# Altium integrated library Capacitors - Ceramic - 0201.IntLib: 1723 symbols (part 14 of 38)
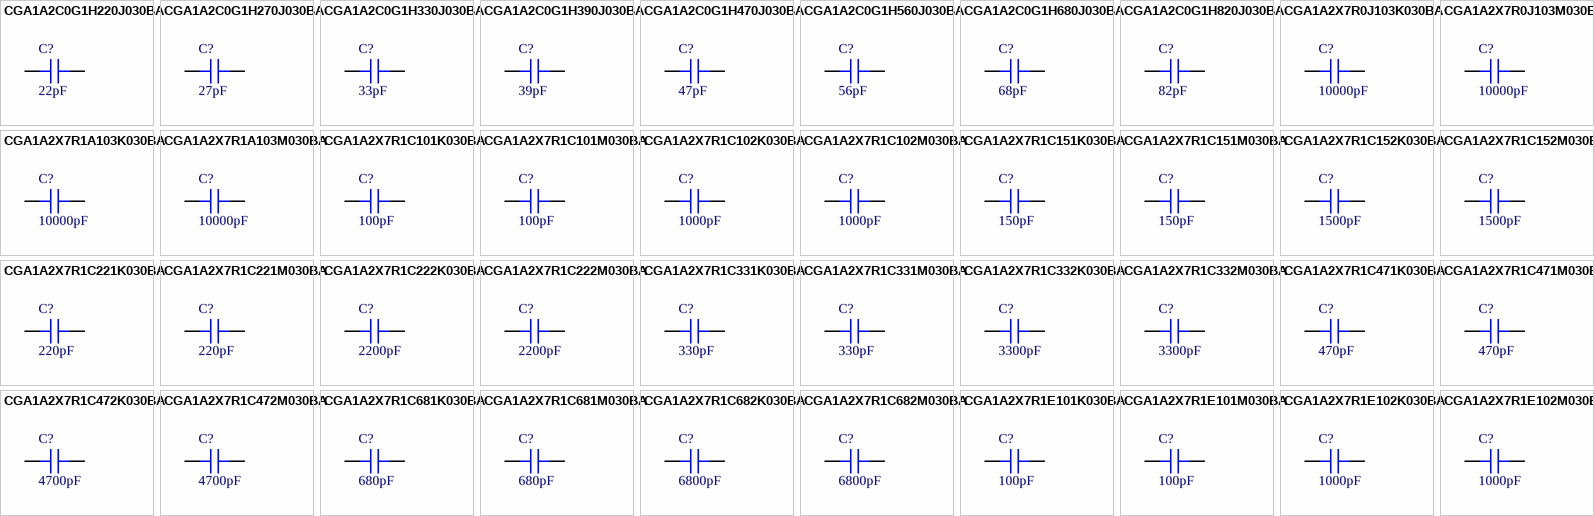
[diagram p56: symbols CGA1A2C0G1H220J030BA to CGA1A2X7R1E102M030BA]

## CGA1A2X7R1E102M030BA
designator C?, comment 1000pF
CAP CER 1000PF 25V X7R 0201; Part Number: CGA1A2X7R1E102M030BA; Manufacturer: TDK Corporation; Tolerance: ±20%; Value: 1000pF; Applications: Automotive; Capacitance: 1000pF; ComponentLink1Description: Datasheet; ComponentLink1URL: https://product.tdk.com/info/en/catalog/datasheets/mlcc_automotive_general_en.pdf?ref_disty=digikey; ComponentLink2Description: DigiKey Link; ComponentLink2URL: http://digikey.com/product-detail/en/tdk-corporation/CGA1A2X7R1E102M030BA/445-12086-1-ND/3953752; Device Package: 0201 (0603 Metric); LastUpdated: 9/2/2020 12:59:24 AM; Lifecycle Status: Active; Minimum Order: 1; Mounting Type: Surface Mount, MLCC; Operating Temperature: -55°C ~ 125°C; Package / Case: 0201 (0603 Metric); Packaging: TapeAndReel; PartId: 649; Part Status: Active; Price: 0.01; Ratings: AEC-Q200; Series: CGA; Size / Dimension: 0.024" L x 0.012" W (0.60mm x 0.30mm); Supplier 1: DigiKey; Supplier Part Number 1: 445-12086-1-ND; Temperature Coefficient: X7R; Thickness (Max): 0.013" (0.33mm); Voltage - Rated: 25V
footprint CAP 0201_0603
pins: 1, 2

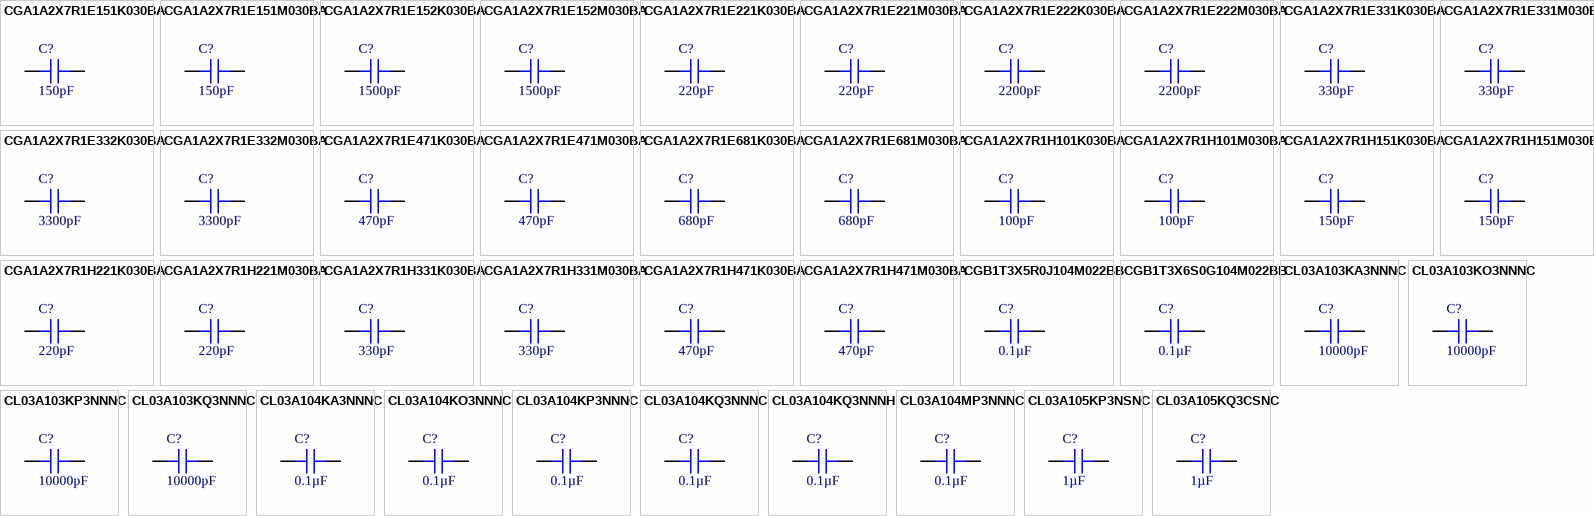
[diagram p15: symbols CGA1A2X7R1E151K030BA to CL03A105KQ3CSNC]

## CGA1A2X7R1E151K030BA
designator C?, comment 150pF
CAP CER 150PF 25V X7R 0201; Part Number: CGA1A2X7R1E151K030BA; Manufacturer: TDK Corporation; Tolerance: ±10%; Value: 150pF; Applications: Automotive; Capacitance: 150pF; ComponentLink1Description: Datasheet; ComponentLink1URL: https://product.tdk.com/info/en/catalog/datasheets/mlcc_automotive_general_en.pdf?ref_disty=digikey; ComponentLink2Description: DigiKey Link; ComponentLink2URL: http://digikey.com/product-detail/en/tdk-corporation/CGA1A2X7R1E151K030BA/445-12091-1-ND/3953757; Device Package: 0201 (0603 Metric); LastUpdated: 9/2/2020 12:59:38 AM; Lifecycle Status: Active; Minimum Order: 1; Mounting Type: Surface Mount, MLCC; Operating Temperature: -55°C ~ 125°C; Package / Case: 0201 (0603 Metric); Packaging: TapeAndReel; PartId: 481; Part Status: Active; Price: 0.02; Ratings: AEC-Q200; Series: CGA; Size / Dimension: 0.024" L x 0.012" W (0.60mm x 0.30mm); Supplier 1: DigiKey; Supplier Part Number 1: 445-12091-1-ND; Temperature Coefficient: X7R; Thickness (Max): 0.013" (0.33mm); Voltage - Rated: 25V
footprint CAP 0201_0603
pins: 1, 2

## CGA1A2X7R1E151M030BA
designator C?, comment 150pF
CAP CER 150PF 25V X7R 0201; Part Number: CGA1A2X7R1E151M030BA; Manufacturer: TDK Corporation; Tolerance: ±20%; Value: 150pF; Applications: Automotive; Capacitance: 150pF; ComponentLink1Description: Datasheet; ComponentLink1URL: https://product.tdk.com/info/en/catalog/datasheets/mlcc_automotive_general_en.pdf?ref_disty=digikey; ComponentLink2Description: DigiKey Link; ComponentLink2URL: http://digikey.com/product-detail/en/tdk-corporation/CGA1A2X7R1E151M030BA/445-12092-1-ND/3953758; Device Package: 0201 (0603 Metric); LastUpdated: 9/2/2020 12:59:42 AM; Lifecycle Status: Active; Minimum Order: 1; Mounting Type: Surface Mount, MLCC; Operating Temperature: -55°C ~ 125°C; Package / Case: 0201 (0603 Metric); Packaging: TapeAndReel; PartId: 430; Part Status: Active; Price: 0.02; Ratings: AEC-Q200; Series: CGA; Size / Dimension: 0.024" L x 0.012" W (0.60mm x 0.30mm); Supplier 1: DigiKey; Supplier Part Number 1: 445-12092-1-ND; Temperature Coefficient: X7R; Thickness (Max): 0.013" (0.33mm); Voltage - Rated: 25V
footprint CAP 0201_0603
pins: 1, 2

## CGA1A2X7R1E152K030BA
designator C?, comment 1500pF
CAP CER 1500PF 25V X7R 0201; Part Number: CGA1A2X7R1E152K030BA; Manufacturer: TDK Corporation; Tolerance: ±10%; Value: 1500pF; Applications: Automotive; Capacitance: 1500pF; ComponentLink1Description: Datasheet; ComponentLink1URL: https://product.tdk.com/info/en/catalog/datasheets/mlcc_automotive_general_en.pdf?ref_disty=digikey; ComponentLink2Description: DigiKey Link; ComponentLink2URL: http://digikey.com/product-detail/en/tdk-corporation/CGA1A2X7R1E152K030BA/445-12089-1-ND/3953755; Device Package: 0201 (0603 Metric); LastUpdated: 9/2/2020 12:59:38 AM; Lifecycle Status: Active; Minimum Order: 1; Mounting Type: Surface Mount, MLCC; Operating Temperature: -55°C ~ 125°C; Package / Case: 0201 (0603 Metric); Packaging: TapeAndReel; PartId: 484; Part Status: Active; Price: 0.02; Ratings: AEC-Q200; Series: CGA; Size / Dimension: 0.024" L x 0.012" W (0.60mm x 0.30mm); Supplier 1: DigiKey; Supplier Part Number 1: 445-12089-1-ND; Temperature Coefficient: X7R; Thickness (Max): 0.013" (0.33mm); Voltage - Rated: 25V
footprint CAP 0201_0603
pins: 1, 2

## CGA1A2X7R1E152M030BA
designator C?, comment 1500pF
CAP CER 1500PF 25V X7R 0201; Part Number: CGA1A2X7R1E152M030BA; Manufacturer: TDK Corporation; Tolerance: ±20%; Value: 1500pF; Applications: Automotive; Capacitance: 1500pF; ComponentLink1Description: Datasheet; ComponentLink1URL: https://product.tdk.com/info/en/catalog/datasheets/mlcc_automotive_general_en.pdf?ref_disty=digikey; ComponentLink2Description: DigiKey Link; ComponentLink2URL: http://digikey.com/product-detail/en/tdk-corporation/CGA1A2X7R1E152M030BA/445-12090-1-ND/3953756; Device Package: 0201 (0603 Metric); LastUpdated: 9/2/2020 12:59:23 AM; Lifecycle Status: Active; Minimum Order: 1; Mounting Type: Surface Mount, MLCC; Operating Temperature: -55°C ~ 125°C; Package / Case: 0201 (0603 Metric); Packaging: TapeAndReel; PartId: 653; Part Status: Active; Price: 0.02; Ratings: AEC-Q200; Series: CGA; Size / Dimension: 0.024" L x 0.012" W (0.60mm x 0.30mm); Supplier 1: DigiKey; Supplier Part Number 1: 445-12090-1-ND; Temperature Coefficient: X7R; Thickness (Max): 0.013" (0.33mm); Voltage - Rated: 25V
footprint CAP 0201_0603
pins: 1, 2

## CGA1A2X7R1E221K030BA
designator C?, comment 220pF
CAP CER 220PF 25V X7R 0201; Part Number: CGA1A2X7R1E221K030BA; Manufacturer: TDK Corporation; Tolerance: ±10%; Value: 220pF; Applications: Automotive; Capacitance: 220pF; ComponentLink1Description: Datasheet; ComponentLink1URL: https://product.tdk.com/info/en/catalog/datasheets/mlcc_automotive_general_en.pdf?ref_disty=digikey; ComponentLink2Description: DigiKey Link; ComponentLink2URL: http://digikey.com/product-detail/en/tdk-corporation/CGA1A2X7R1E221K030BA/445-12095-1-ND/3953761; Device Package: 0201 (0603 Metric); LastUpdated: 9/2/2020 12:59:39 AM; Lifecycle Status: Active; Minimum Order: 1; Mounting Type: Surface Mount, MLCC; Operating Temperature: -55°C ~ 125°C; Package / Case: 0201 (0603 Metric); Packaging: TapeAndReel; PartId: 470; Part Status: Active; Price: 0.01; Ratings: AEC-Q200; Series: CGA; Size / Dimension: 0.024" L x 0.012" W (0.60mm x 0.30mm); Supplier 1: DigiKey; Supplier Part Number 1: 445-12095-1-ND; Temperature Coefficient: X7R; Thickness (Max): 0.013" (0.33mm); Voltage - Rated: 25V
footprint CAP 0201_0603
pins: 1, 2

## CGA1A2X7R1E221M030BA
designator C?, comment 220pF
CAP CER 220PF 25V X7R 0201; Part Number: CGA1A2X7R1E221M030BA; Manufacturer: TDK Corporation; Tolerance: ±20%; Value: 220pF; Applications: Automotive; Capacitance: 220pF; ComponentLink1Description: Datasheet; ComponentLink1URL: https://product.tdk.com/info/en/catalog/datasheets/mlcc_automotive_general_en.pdf?ref_disty=digikey; ComponentLink2Description: DigiKey Link; ComponentLink2URL: http://digikey.com/product-detail/en/tdk-corporation/CGA1A2X7R1E221M030BA/445-12096-1-ND/3953762; Device Package: 0201 (0603 Metric); LastUpdated: 9/2/2020 12:57:53 AM; Lifecycle Status: Active; Minimum Order: 1; Mounting Type: Surface Mount, MLCC; Operating Temperature: -55°C ~ 125°C; Package / Case: 0201 (0603 Metric); Packaging: TapeAndReel; PartId: 1680; Part Status: Active; Price: 0.01; Ratings: AEC-Q200; Series: CGA; Size / Dimension: 0.024" L x 0.012" W (0.60mm x 0.30mm); Supplier 1: DigiKey; Supplier Part Number 1: 445-12096-1-ND; Temperature Coefficient: X7R; Thickness (Max): 0.013" (0.33mm); Voltage - Rated: 25V
footprint CAP 0201_0603
pins: 1, 2

## CGA1A2X7R1E222K030BA
designator C?, comment 2200pF
CAP CER 2200PF 25V X7R 0201; Part Number: CGA1A2X7R1E222K030BA; Manufacturer: TDK Corporation; Tolerance: ±10%; Value: 2200pF; Applications: Automotive; Capacitance: 2200pF; ComponentLink1Description: Datasheet; ComponentLink1URL: https://product.tdk.com/info/en/catalog/datasheets/mlcc_automotive_general_en.pdf?ref_disty=digikey; ComponentLink2Description: DigiKey Link; ComponentLink2URL: http://digikey.com/product-detail/en/tdk-corporation/CGA1A2X7R1E222K030BA/445-12093-1-ND/3953759; Device Package: 0201 (0603 Metric); LastUpdated: 9/2/2020 12:59:24 AM; Lifecycle Status: Active; Minimum Order: 1; Mounting Type: Surface Mount, MLCC; Operating Temperature: -55°C ~ 125°C; Package / Case: 0201 (0603 Metric); Packaging: TapeAndReel; PartId: 648; Part Status: Active; Price: 0.01; Ratings: AEC-Q200; Series: CGA; Size / Dimension: 0.024" L x 0.012" W (0.60mm x 0.30mm); Supplier 1: DigiKey; Supplier Part Number 1: 445-12093-1-ND; Temperature Coefficient: X7R; Thickness (Max): 0.013" (0.33mm); Voltage - Rated: 25V
footprint CAP 0201_0603
pins: 1, 2

## CGA1A2X7R1E222M030BA
designator C?, comment 2200pF
CAP CER 2200PF 25V X7R 0201; Part Number: CGA1A2X7R1E222M030BA; Manufacturer: TDK Corporation; Tolerance: ±20%; Value: 2200pF; Applications: Automotive; Capacitance: 2200pF; ComponentLink1Description: Datasheet; ComponentLink1URL: https://product.tdk.com/info/en/catalog/datasheets/mlcc_automotive_general_en.pdf?ref_disty=digikey; ComponentLink2Description: DigiKey Link; ComponentLink2URL: http://digikey.com/product-detail/en/tdk-corporation/CGA1A2X7R1E222M030BA/445-12094-1-ND/3953760; Device Package: 0201 (0603 Metric); LastUpdated: 9/2/2020 12:59:41 AM; Lifecycle Status: Active; Minimum Order: 1; Mounting Type: Surface Mount, MLCC; Operating Temperature: -55°C ~ 125°C; Package / Case: 0201 (0603 Metric); Packaging: TapeAndReel; PartId: 444; Part Status: Active; Price: 0.01; Ratings: AEC-Q200; Series: CGA; Size / Dimension: 0.024" L x 0.012" W (0.60mm x 0.30mm); Supplier 1: DigiKey; Supplier Part Number 1: 445-12094-1-ND; Temperature Coefficient: X7R; Thickness (Max): 0.013" (0.33mm); Voltage - Rated: 25V
footprint CAP 0201_0603
pins: 1, 2

## CGA1A2X7R1E331K030BA
designator C?, comment 330pF
CAP CER 330PF 25V X7R 0201; Part Number: CGA1A2X7R1E331K030BA; Manufacturer: TDK Corporation; Tolerance: ±10%; Value: 330pF; Applications: Automotive; Capacitance: 330pF; ComponentLink1Description: Datasheet; ComponentLink1URL: https://product.tdk.com/info/en/catalog/datasheets/mlcc_automotive_general_en.pdf?ref_disty=digikey; ComponentLink2Description: DigiKey Link; ComponentLink2URL: http://digikey.com/product-detail/en/tdk-corporation/CGA1A2X7R1E331K030BA/445-12099-1-ND/3953765; Device Package: 0201 (0603 Metric); LastUpdated: 9/2/2020 12:59:39 AM; Lifecycle Status: Active; Minimum Order: 1; Mounting Type: Surface Mount, MLCC; Operating Temperature: -55°C ~ 125°C; Package / Case: 0201 (0603 Metric); Packaging: TapeAndReel; PartId: 478; Part Status: Active; Price: 0.02; Ratings: AEC-Q200; Series: CGA; Size / Dimension: 0.024" L x 0.012" W (0.60mm x 0.30mm); Supplier 1: DigiKey; Supplier Part Number 1: 445-12099-1-ND; Temperature Coefficient: X7R; Thickness (Max): 0.013" (0.33mm); Voltage - Rated: 25V
footprint CAP 0201_0603
pins: 1, 2

## CGA1A2X7R1E331M030BA
designator C?, comment 330pF
CAP CER 330PF 25V X7R 0201; Part Number: CGA1A2X7R1E331M030BA; Manufacturer: TDK Corporation; Tolerance: ±20%; Value: 330pF; Applications: Automotive; Capacitance: 330pF; ComponentLink1Description: Datasheet; ComponentLink1URL: https://product.tdk.com/info/en/catalog/datasheets/mlcc_automotive_general_en.pdf?ref_disty=digikey; ComponentLink2Description: DigiKey Link; ComponentLink2URL: http://digikey.com/product-detail/en/tdk-corporation/CGA1A2X7R1E331M030BA/445-12100-1-ND/3953766; Device Package: 0201 (0603 Metric); LastUpdated: 9/2/2020 12:58:02 AM; Lifecycle Status: Active; Minimum Order: 1; Mounting Type: Surface Mount, MLCC; Operating Temperature: -55°C ~ 125°C; Package / Case: 0201 (0603 Metric); Packaging: TapeAndReel; PartId: 1577; Part Status: Active; Price: 0.02; Ratings: AEC-Q200; Series: CGA; Size / Dimension: 0.024" L x 0.012" W (0.60mm x 0.30mm); Supplier 1: DigiKey; Supplier Part Number 1: 445-12100-1-ND; Temperature Coefficient: X7R; Thickness (Max): 0.013" (0.33mm); Voltage - Rated: 25V
footprint CAP 0201_0603
pins: 1, 2

## CGA1A2X7R1E332K030BA
designator C?, comment 3300pF
CAP CER 3300PF 25V X7R 0201; Part Number: CGA1A2X7R1E332K030BA; Manufacturer: TDK Corporation; Tolerance: ±10%; Value: 3300pF; Applications: Automotive; Capacitance: 3300pF; ComponentLink1Description: Datasheet; ComponentLink1URL: https://product.tdk.com/info/en/catalog/datasheets/mlcc_automotive_general_en.pdf?ref_disty=digikey; ComponentLink2Description: DigiKey Link; ComponentLink2URL: http://digikey.com/product-detail/en/tdk-corporation/CGA1A2X7R1E332K030BA/445-12097-1-ND/3953763; Device Package: 0201 (0603 Metric); LastUpdated: 9/2/2020 12:58:43 AM; Lifecycle Status: Active; Minimum Order: 1; Mounting Type: Surface Mount, MLCC; Operating Temperature: -55°C ~ 125°C; Package / Case: 0201 (0603 Metric); Packaging: TapeAndReel; PartId: 1123; Part Status: Active; Price: 0.02; Ratings: AEC-Q200; Series: CGA; Size / Dimension: 0.024" L x 0.012" W (0.60mm x 0.30mm); Supplier 1: DigiKey; Supplier Part Number 1: 445-12097-1-ND; Temperature Coefficient: X7R; Thickness (Max): 0.013" (0.33mm); Voltage - Rated: 25V
footprint CAP 0201_0603
pins: 1, 2

## CGA1A2X7R1E332M030BA
designator C?, comment 3300pF
CAP CER 3300PF 25V X7R 0201; Part Number: CGA1A2X7R1E332M030BA; Manufacturer: TDK Corporation; Tolerance: ±20%; Value: 3300pF; Applications: Automotive; Capacitance: 3300pF; ComponentLink1Description: Datasheet; ComponentLink1URL: https://product.tdk.com/info/en/catalog/datasheets/mlcc_automotive_general_en.pdf?ref_disty=digikey; ComponentLink2Description: DigiKey Link; ComponentLink2URL: http://digikey.com/product-detail/en/tdk-corporation/CGA1A2X7R1E332M030BA/445-12098-1-ND/3953764; Device Package: 0201 (0603 Metric); LastUpdated: 9/2/2020 12:59:23 AM; Lifecycle Status: Active; Minimum Order: 1; Mounting Type: Surface Mount, MLCC; Operating Temperature: -55°C ~ 125°C; Package / Case: 0201 (0603 Metric); Packaging: TapeAndReel; PartId: 658; Part Status: Active; Price: 0.02; Ratings: AEC-Q200; Series: CGA; Size / Dimension: 0.024" L x 0.012" W (0.60mm x 0.30mm); Supplier 1: DigiKey; Supplier Part Number 1: 445-12098-1-ND; Temperature Coefficient: X7R; Thickness (Max): 0.013" (0.33mm); Voltage - Rated: 25V
footprint CAP 0201_0603
pins: 1, 2

## CGA1A2X7R1E471K030BA
designator C?, comment 470pF
CAP CER 470PF 25V X7R 0201; Part Number: CGA1A2X7R1E471K030BA; Manufacturer: TDK Corporation; Tolerance: ±10%; Value: 470pF; Applications: Automotive; Capacitance: 470pF; ComponentLink1Description: Datasheet; ComponentLink1URL: https://product.tdk.com/info/en/catalog/datasheets/mlcc_automotive_general_en.pdf?ref_disty=digikey; ComponentLink2Description: DigiKey Link; ComponentLink2URL: http://digikey.com/product-detail/en/tdk-corporation/CGA1A2X7R1E471K030BA/445-12101-1-ND/3953767; Device Package: 0201 (0603 Metric); LastUpdated: 9/2/2020 12:57:53 AM; Lifecycle Status: Active; Minimum Order: 1; Mounting Type: Surface Mount, MLCC; Operating Temperature: -55°C ~ 125°C; Package / Case: 0201 (0603 Metric); Packaging: TapeAndReel; PartId: 1681; Part Status: Active; Price: 0.01; Ratings: AEC-Q200; Series: CGA; Size / Dimension: 0.024" L x 0.012" W (0.60mm x 0.30mm); Supplier 1: DigiKey; Supplier Part Number 1: 445-12101-1-ND; Temperature Coefficient: X7R; Thickness (Max): 0.013" (0.33mm); Voltage - Rated: 25V
footprint CAP 0201_0603
pins: 1, 2

## CGA1A2X7R1E471M030BA
designator C?, comment 470pF
CAP CER 470PF 25V X7R 0201; Part Number: CGA1A2X7R1E471M030BA; Manufacturer: TDK Corporation; Tolerance: ±20%; Value: 470pF; Applications: Automotive; Capacitance: 470pF; ComponentLink1Description: Datasheet; ComponentLink1URL: https://product.tdk.com/info/en/catalog/datasheets/mlcc_automotive_general_en.pdf?ref_disty=digikey; ComponentLink2Description: DigiKey Link; ComponentLink2URL: http://digikey.com/product-detail/en/tdk-corporation/CGA1A2X7R1E471M030BA/445-12102-1-ND/3953768; Device Package: 0201 (0603 Metric); LastUpdated: 9/2/2020 12:57:53 AM; Lifecycle Status: Active; Minimum Order: 1; Mounting Type: Surface Mount, MLCC; Operating Temperature: -55°C ~ 125°C; Package / Case: 0201 (0603 Metric); Packaging: TapeAndReel; PartId: 1682; Part Status: Active; Price: 0.01; Ratings: AEC-Q200; Series: CGA; Size / Dimension: 0.024" L x 0.012" W (0.60mm x 0.30mm); Supplier 1: DigiKey; Supplier Part Number 1: 445-12102-1-ND; Temperature Coefficient: X7R; Thickness (Max): 0.013" (0.33mm); Voltage - Rated: 25V
footprint CAP 0201_0603
pins: 1, 2

## CGA1A2X7R1E681K030BA
designator C?, comment 680pF
CAP CER 680PF 25V X7R 0201; Part Number: CGA1A2X7R1E681K030BA; Manufacturer: TDK Corporation; Tolerance: ±10%; Value: 680pF; Applications: Automotive; Capacitance: 680pF; ComponentLink1Description: Datasheet; ComponentLink1URL: https://product.tdk.com/info/en/catalog/datasheets/mlcc_automotive_general_en.pdf?ref_disty=digikey; ComponentLink2Description: DigiKey Link; ComponentLink2URL: http://digikey.com/product-detail/en/tdk-corporation/CGA1A2X7R1E681K030BA/445-12103-1-ND/3953769; Device Package: 0201 (0603 Metric); LastUpdated: 9/2/2020 12:59:39 AM; Lifecycle Status: Active; Minimum Order: 1; Mounting Type: Surface Mount, MLCC; Operating Temperature: -55°C ~ 125°C; Package / Case: 0201 (0603 Metric); Packaging: TapeAndReel; PartId: 474; Part Status: Active; Price: 0.02; Ratings: AEC-Q200; Series: CGA; Size / Dimension: 0.024" L x 0.012" W (0.60mm x 0.30mm); Supplier 1: DigiKey; Supplier Part Number 1: 445-12103-1-ND; Temperature Coefficient: X7R; Thickness (Max): 0.013" (0.33mm); Voltage - Rated: 25V
footprint CAP 0201_0603
pins: 1, 2

## CGA1A2X7R1E681M030BA
designator C?, comment 680pF
CAP CER 680PF 25V X7R 0201; Part Number: CGA1A2X7R1E681M030BA; Manufacturer: TDK Corporation; Tolerance: ±20%; Value: 680pF; Applications: Automotive; Capacitance: 680pF; ComponentLink1Description: Datasheet; ComponentLink1URL: https://product.tdk.com/info/en/catalog/datasheets/mlcc_automotive_general_en.pdf?ref_disty=digikey; ComponentLink2Description: DigiKey Link; ComponentLink2URL: http://digikey.com/product-detail/en/tdk-corporation/CGA1A2X7R1E681M030BA/445-12104-1-ND/3953770; Device Package: 0201 (0603 Metric); LastUpdated: 9/2/2020 12:59:41 AM; Lifecycle Status: Active; Minimum Order: 1; Mounting Type: Surface Mount, MLCC; Operating Temperature: -55°C ~ 125°C; Package / Case: 0201 (0603 Metric); Packaging: TapeAndReel; PartId: 453; Part Status: Active; Price: 0.02; Ratings: AEC-Q200; Series: CGA; Size / Dimension: 0.024" L x 0.012" W (0.60mm x 0.30mm); Supplier 1: DigiKey; Supplier Part Number 1: 445-12104-1-ND; Temperature Coefficient: X7R; Thickness (Max): 0.013" (0.33mm); Voltage - Rated: 25V
footprint CAP 0201_0603
pins: 1, 2

## CGA1A2X7R1H101K030BA
designator C?, comment 100pF
CAP CER 100PF 50V X7R 0201; Part Number: CGA1A2X7R1H101K030BA; Manufacturer: TDK Corporation; Tolerance: ±10%; Value: 100pF; Applications: Automotive; Capacitance: 100pF; ComponentLink1Description: Datasheet; ComponentLink1URL: https://product.tdk.com/info/en/catalog/datasheets/mlcc_automotive_general_en.pdf?ref_disty=digikey; ComponentLink2Description: DigiKey Link; ComponentLink2URL: http://digikey.com/product-detail/en/tdk-corporation/CGA1A2X7R1H101K030BA/445-12105-1-ND/3953771; Device Package: 0201 (0603 Metric); LastUpdated: 9/2/2020 12:57:58 AM; Lifecycle Status: Active; Minimum Order: 1; Mounting Type: Surface Mount, MLCC; Operating Temperature: -55°C ~ 125°C; Package / Case: 0201 (0603 Metric); Packaging: TapeAndReel; PartId: 1624; Part Status: Active; Price: 0.01; Ratings: AEC-Q200; Series: CGA; Size / Dimension: 0.024" L x 0.012" W (0.60mm x 0.30mm); Supplier 1: DigiKey; Supplier Part Number 1: 445-12105-1-ND; Temperature Coefficient: X7R; Thickness (Max): 0.013" (0.33mm); Voltage - Rated: 50V
footprint CAP 0201_0603
pins: 1, 2

## CGA1A2X7R1H101M030BA
designator C?, comment 100pF
CAP CER 100PF 50V X7R 0201; Part Number: CGA1A2X7R1H101M030BA; Manufacturer: TDK Corporation; Tolerance: ±20%; Value: 100pF; Applications: Automotive; Capacitance: 100pF; ComponentLink1Description: Datasheet; ComponentLink1URL: https://product.tdk.com/info/en/catalog/datasheets/mlcc_automotive_general_en.pdf?ref_disty=digikey; ComponentLink2Description: DigiKey Link; ComponentLink2URL: http://digikey.com/product-detail/en/tdk-corporation/CGA1A2X7R1H101M030BA/445-12106-1-ND/3953772; Device Package: 0201 (0603 Metric); LastUpdated: 9/2/2020 12:59:43 AM; Lifecycle Status: Active; Minimum Order: 1; Mounting Type: Surface Mount, MLCC; Operating Temperature: -55°C ~ 125°C; Package / Case: 0201 (0603 Metric); Packaging: TapeAndReel; PartId: 424; Part Status: Active; Price: 0.01; Ratings: AEC-Q200; Series: CGA; Size / Dimension: 0.024" L x 0.012" W (0.60mm x 0.30mm); Supplier 1: DigiKey; Supplier Part Number 1: 445-12106-1-ND; Temperature Coefficient: X7R; Thickness (Max): 0.013" (0.33mm); Voltage - Rated: 50V
footprint CAP 0201_0603
pins: 1, 2

## CGA1A2X7R1H151K030BA
designator C?, comment 150pF
CAP CER 150PF 50V X7R 0201; Part Number: CGA1A2X7R1H151K030BA; Manufacturer: TDK Corporation; Tolerance: ±10%; Value: 150pF; Applications: Automotive; Capacitance: 150pF; ComponentLink1Description: Datasheet; ComponentLink1URL: https://product.tdk.com/info/en/catalog/datasheets/mlcc_automotive_general_en.pdf?ref_disty=digikey; ComponentLink2Description: DigiKey Link; ComponentLink2URL: http://digikey.com/product-detail/en/tdk-corporation/CGA1A2X7R1H151K030BA/445-12107-1-ND/3953773; Device Package: 0201 (0603 Metric); LastUpdated: 9/2/2020 12:57:52 AM; Lifecycle Status: Active; Minimum Order: 1; Mounting Type: Surface Mount, MLCC; Operating Temperature: -55°C ~ 125°C; Package / Case: 0201 (0603 Metric); Packaging: TapeAndReel; PartId: 1690; Part Status: Active; Price: 0.02; Ratings: AEC-Q200; Series: CGA; Size / Dimension: 0.024" L x 0.012" W (0.60mm x 0.30mm); Supplier 1: DigiKey; Supplier Part Number 1: 445-12107-1-ND; Temperature Coefficient: X7R; Thickness (Max): 0.013" (0.33mm); Voltage - Rated: 50V
footprint CAP 0201_0603
pins: 1, 2

## CGA1A2X7R1H151M030BA
designator C?, comment 150pF
CAP CER 150PF 50V X7R 0201; Part Number: CGA1A2X7R1H151M030BA; Manufacturer: TDK Corporation; Tolerance: ±20%; Value: 150pF; Applications: Automotive; Capacitance: 150pF; ComponentLink1Description: Datasheet; ComponentLink1URL: https://product.tdk.com/info/en/catalog/datasheets/mlcc_automotive_general_en.pdf?ref_disty=digikey; ComponentLink2Description: DigiKey Link; ComponentLink2URL: http://digikey.com/product-detail/en/tdk-corporation/CGA1A2X7R1H151M030BA/445-12108-1-ND/3953774; Device Package: 0201 (0603 Metric); LastUpdated: 9/2/2020 12:59:42 AM; Lifecycle Status: Active; Minimum Order: 1; Mounting Type: Surface Mount, MLCC; Operating Temperature: -55°C ~ 125°C; Package / Case: 0201 (0603 Metric); Packaging: TapeAndReel; PartId: 431; Part Status: Active; Price: 0.02; Ratings: AEC-Q200; Series: CGA; Size / Dimension: 0.024" L x 0.012" W (0.60mm x 0.30mm); Supplier 1: DigiKey; Supplier Part Number 1: 445-12108-1-ND; Temperature Coefficient: X7R; Thickness (Max): 0.013" (0.33mm); Voltage - Rated: 50V
footprint CAP 0201_0603
pins: 1, 2

## CGA1A2X7R1H221K030BA
designator C?, comment 220pF
CAP CER 220PF 50V X7R 0201; Part Number: CGA1A2X7R1H221K030BA; Manufacturer: TDK Corporation; Tolerance: ±10%; Value: 220pF; Applications: Automotive; Capacitance: 220pF; ComponentLink1Description: Datasheet; ComponentLink1URL: https://product.tdk.com/info/en/catalog/datasheets/mlcc_automotive_general_en.pdf?ref_disty=digikey; ComponentLink2Description: DigiKey Link; ComponentLink2URL: http://digikey.com/product-detail/en/tdk-corporation/CGA1A2X7R1H221K030BA/445-12109-1-ND/3953775; Device Package: 0201 (0603 Metric); LastUpdated: 9/2/2020 12:58:45 AM; Lifecycle Status: Active; Minimum Order: 1; Mounting Type: Surface Mount, MLCC; Operating Temperature: -55°C ~ 125°C; Package / Case: 0201 (0603 Metric); Packaging: TapeAndReel; PartId: 1104; Part Status: Active; Price: 0.01; Ratings: AEC-Q200; Series: CGA; Size / Dimension: 0.024" L x 0.012" W (0.60mm x 0.30mm); Supplier 1: DigiKey; Supplier Part Number 1: 445-12109-1-ND; Temperature Coefficient: X7R; Thickness (Max): 0.013" (0.33mm); Voltage - Rated: 50V
footprint CAP 0201_0603
pins: 1, 2

## CGA1A2X7R1H221M030BA
designator C?, comment 220pF
CAP CER 220PF 50V X7R 0201; Part Number: CGA1A2X7R1H221M030BA; Manufacturer: TDK Corporation; Tolerance: ±20%; Value: 220pF; Applications: Automotive; Capacitance: 220pF; ComponentLink1Description: Datasheet; ComponentLink1URL: https://product.tdk.com/info/en/catalog/datasheets/mlcc_automotive_general_en.pdf?ref_disty=digikey; ComponentLink2Description: DigiKey Link; ComponentLink2URL: http://digikey.com/product-detail/en/tdk-corporation/CGA1A2X7R1H221M030BA/445-12110-1-ND/3953776; Device Package: 0201 (0603 Metric); LastUpdated: 9/2/2020 12:58:47 AM; Lifecycle Status: Active; Minimum Order: 1; Mounting Type: Surface Mount, MLCC; Operating Temperature: -55°C ~ 125°C; Package / Case: 0201 (0603 Metric); Packaging: TapeAndReel; PartId: 1076; Part Status: Active; Price: 0.01; Ratings: AEC-Q200; Series: CGA; Size / Dimension: 0.024" L x 0.012" W (0.60mm x 0.30mm); Supplier 1: DigiKey; Supplier Part Number 1: 445-12110-1-ND; Temperature Coefficient: X7R; Thickness (Max): 0.013" (0.33mm); Voltage - Rated: 50V
footprint CAP 0201_0603
pins: 1, 2

## CGA1A2X7R1H331K030BA
designator C?, comment 330pF
CAP CER 330PF 50V X7R 0201; Part Number: CGA1A2X7R1H331K030BA; Manufacturer: TDK Corporation; Tolerance: ±10%; Value: 330pF; Applications: Automotive; Capacitance: 330pF; ComponentLink1Description: Datasheet; ComponentLink1URL: https://product.tdk.com/info/en/catalog/datasheets/mlcc_automotive_general_en.pdf?ref_disty=digikey; ComponentLink2Description: DigiKey Link; ComponentLink2URL: http://digikey.com/product-detail/en/tdk-corporation/CGA1A2X7R1H331K030BA/445-12111-1-ND/3953777; Device Package: 0201 (0603 Metric); LastUpdated: 9/2/2020 12:58:44 AM; Lifecycle Status: Active; Minimum Order: 1; Mounting Type: Surface Mount, MLCC; Operating Temperature: -55°C ~ 125°C; Package / Case: 0201 (0603 Metric); Packaging: TapeAndReel; PartId: 1118; Part Status: Active; Price: 0.02; Ratings: AEC-Q200; Series: CGA; Size / Dimension: 0.024" L x 0.012" W (0.60mm x 0.30mm); Supplier 1: DigiKey; Supplier Part Number 1: 445-12111-1-ND; Temperature Coefficient: X7R; Thickness (Max): 0.013" (0.33mm); Voltage - Rated: 50V
footprint CAP 0201_0603
pins: 1, 2

## CGA1A2X7R1H331M030BA
designator C?, comment 330pF
CAP CER 330PF 50V X7R 0201; Part Number: CGA1A2X7R1H331M030BA; Manufacturer: TDK Corporation; Tolerance: ±20%; Value: 330pF; Applications: Automotive; Capacitance: 330pF; ComponentLink1Description: Datasheet; ComponentLink1URL: https://product.tdk.com/info/en/catalog/datasheets/mlcc_automotive_general_en.pdf?ref_disty=digikey; ComponentLink2Description: DigiKey Link; ComponentLink2URL: http://digikey.com/product-detail/en/tdk-corporation/CGA1A2X7R1H331M030BA/445-12112-1-ND/3953778; Device Package: 0201 (0603 Metric); LastUpdated: 9/2/2020 12:58:02 AM; Lifecycle Status: Active; Minimum Order: 1; Mounting Type: Surface Mount, MLCC; Operating Temperature: -55°C ~ 125°C; Package / Case: 0201 (0603 Metric); Packaging: TapeAndReel; PartId: 1581; Part Status: Active; Price: 0.02; Ratings: AEC-Q200; Series: CGA; Size / Dimension: 0.024" L x 0.012" W (0.60mm x 0.30mm); Supplier 1: DigiKey; Supplier Part Number 1: 445-12112-1-ND; Temperature Coefficient: X7R; Thickness (Max): 0.013" (0.33mm); Voltage - Rated: 50V
footprint CAP 0201_0603
pins: 1, 2

## CGA1A2X7R1H471K030BA
designator C?, comment 470pF
CAP CER 470PF 50V X7R 0201; Part Number: CGA1A2X7R1H471K030BA; Manufacturer: TDK Corporation; Tolerance: ±10%; Value: 470pF; Applications: Automotive; Capacitance: 470pF; ComponentLink1Description: Datasheet; ComponentLink1URL: https://product.tdk.com/info/en/catalog/datasheets/mlcc_automotive_general_en.pdf?ref_disty=digikey; ComponentLink2Description: DigiKey Link; ComponentLink2URL: http://digikey.com/product-detail/en/tdk-corporation/CGA1A2X7R1H471K030BA/445-12113-1-ND/3953779; Device Package: 0201 (0603 Metric); LastUpdated: 9/2/2020 1:00:01 AM; Lifecycle Status: Active; Minimum Order: 1; Mounting Type: Surface Mount, MLCC; Operating Temperature: -55°C ~ 125°C; Package / Case: 0201 (0603 Metric); Packaging: TapeAndReel; PartId: 218; Part Status: Active; Price: 0.01; Ratings: AEC-Q200; Series: CGA; Size / Dimension: 0.024" L x 0.012" W (0.60mm x 0.30mm); Supplier 1: DigiKey; Supplier Part Number 1: 445-12113-1-ND; Temperature Coefficient: X7R; Thickness (Max): 0.013" (0.33mm); Voltage - Rated: 50V
footprint CAP 0201_0603
pins: 1, 2

## CGA1A2X7R1H471M030BA
designator C?, comment 470pF
CAP CER 470PF 50V X7R 0201; Part Number: CGA1A2X7R1H471M030BA; Manufacturer: TDK Corporation; Tolerance: ±20%; Value: 470pF; Applications: Automotive; Capacitance: 470pF; ComponentLink1Description: Datasheet; ComponentLink1URL: https://product.tdk.com/info/en/catalog/datasheets/mlcc_automotive_general_en.pdf?ref_disty=digikey; ComponentLink2Description: DigiKey Link; ComponentLink2URL: http://digikey.com/product-detail/en/tdk-corporation/CGA1A2X7R1H471M030BA/445-12114-1-ND/3953780; Device Package: 0201 (0603 Metric); LastUpdated: 9/2/2020 12:58:47 AM; Lifecycle Status: Active; Minimum Order: 1; Mounting Type: Surface Mount, MLCC; Operating Temperature: -55°C ~ 125°C; Package / Case: 0201 (0603 Metric); Packaging: TapeAndReel; PartId: 1074; Part Status: Active; Price: 0.01; Ratings: AEC-Q200; Series: CGA; Size / Dimension: 0.024" L x 0.012" W (0.60mm x 0.30mm); Supplier 1: DigiKey; Supplier Part Number 1: 445-12114-1-ND; Temperature Coefficient: X7R; Thickness (Max): 0.013" (0.33mm); Voltage - Rated: 50V
footprint CAP 0201_0603
pins: 1, 2

## CGB1T3X5R0J104M022BB
designator C?, comment 0.1µF
CAP CER 0.1UF 6.3V X5R 0201; Part Number: CGB1T3X5R0J104M022BB; Manufacturer: TDK Corporation; Tolerance: ±20%; Value: 0.1µF; Applications: General Purpose; Capacitance: 0.1µF; ComponentLink1Description: Datasheet; ComponentLink1URL: https://product.tdk.com/info/en/catalog/datasheets/mlcc_commercial_lowprofile_en.pdf?ref_disty=digikey; ComponentLink2Description: DigiKey Link; ComponentLink2URL: http://digikey.com/product-detail/en/tdk-corporation/CGB1T3X5R0J104M022BB/445-15607-1-ND/4278780; Device Package: 0201 (0603 Metric); Features: Low Profile; LastUpdated: 9/2/2020 12:57:54 AM; Lifecycle Status: Active; Minimum Order: 1; Mounting Type: Surface Mount, MLCC; Operating Temperature: -55°C ~ 85°C; Package / Case: 0201 (0603 Metric); Packaging: TapeAndReel; PartId: 1668; Part Status: Active; Price: 0.05; Series: CGB; Size / Dimension: 0.024" L x 0.012" W (0.60mm x 0.30mm); Supplier 1: DigiKey; Supplier Part Number 1: 445-15607-1-ND; Temperature Coefficient: X5R; Thickness (Max): 0.009" (0.22mm); Voltage - Rated: 6.3V
footprint CAP 0201_0603
pins: 1, 2

## CGB1T3X6S0G104M022BB
designator C?, comment 0.1µF
CAP CER 0.1UF 4V X6S 0201; Part Number: CGB1T3X6S0G104M022BB; Manufacturer: TDK Corporation; Tolerance: ±20%; Applications: General Purpose; Capacitance: 0.1µF; ComponentLink1Description: Datasheet; ComponentLink1URL: https://product.tdk.com/info/en/catalog/datasheets/mlcc_commercial_lowprofile_en.pdf?ref_disty=digikey; ComponentLink2Description: DigiKey Link; ComponentLink2URL: http://digikey.com/product-detail/en/tdk-corporation/CGB1T3X6S0G104M022BB/445-15608-1-ND/4278781; Device Package: 0201 (0603 Metric); Features: Low Profile; LastUpdated: 9/2/2020 1:00:08 AM; Lifecycle Status: Active; Minimum Order: 1; Mounting Type: Surface Mount, MLCC; Operating Temperature: -55°C ~ 105°C; Package / Case: 0201 (0603 Metric); Packaging: TapeAndReel; PartId: 140; Part Status: Active; Price: 0.05; Series: CGB; Size / Dimension: 0.024" L x 0.012" W (0.60mm x 0.30mm); Supplier 1: DigiKey; Supplier Part Number 1: 445-15608-1-ND; Temperature Coefficient: X6S; Thickness (Max): 0.009" (0.22mm); Voltage - Rated: 4V; Value: 0.1µF
footprint CAP 0201_0603
pins: 1, 2

## CL03A103KA3NNNC
designator C?, comment 10000pF
CAP CER 10000PF 25V X5R 0201; Part Number: CL03A103KA3NNNC; Manufacturer: Samsung Electro-Mechanics; Tolerance: ±10%; Value: 10000pF; Applications: General Purpose; Capacitance: 10000pF; ComponentLink1Description: Datasheet; ComponentLink1URL: http://www.samsungsem.com/kr/support/product-search/mlcc/CL03A103KA3NNNC.jsp; ComponentLink2Description: DigiKey Link; ComponentLink2URL: http://digikey.com/product-detail/en/samsung-electro-mechanics/CL03A103KA3NNNC/1276-1314-1-ND/3889400; Device Package: 0201 (0603 Metric); LastUpdated: 9/2/2020 12:58:30 AM; Lifecycle Status: Active; Minimum Order: 1; Mounting Type: Surface Mount, MLCC; Operating Temperature: -55°C ~ 85°C; Package / Case: 0201 (0603 Metric); Packaging: TapeAndReel; PartId: 1278; Part Status: Active; Price: 0.03; Series: CL; Size / Dimension: 0.024" L x 0.012" W (0.60mm x 0.30mm); Supplier 1: DigiKey; Supplier Part Number 1: 1276-1314-1-ND; Temperature Coefficient: X5R; Thickness (Max): 0.013" (0.33mm); Voltage - Rated: 25V
footprint CAP 0201_0603
pins: 1, 2

## CL03A103KO3NNNC
designator C?, comment 10000pF
CAP CER 10000PF 16V X5R 0201; Part Number: CL03A103KO3NNNC; Manufacturer: Samsung Electro-Mechanics; Tolerance: ±10%; Value: 10000pF; Applications: General Purpose; Capacitance: 10000pF; ComponentLink1Description: Datasheet; ComponentLink1URL: http://www.samsungsem.com/kr/support/product-search/mlcc/CL03A103KO3NNNC.jsp; ComponentLink2Description: DigiKey Link; ComponentLink2URL: http://digikey.com/product-detail/en/samsung-electro-mechanics/CL03A103KO3NNNC/1276-1315-1-ND/3889401; Device Package: 0201 (0603 Metric); LastUpdated: 9/2/2020 12:58:03 AM; Lifecycle Status: Active; Minimum Order: 1; Mounting Type: Surface Mount, MLCC; Operating Temperature: -55°C ~ 85°C; Package / Case: 0201 (0603 Metric); Packaging: CutTape; PartId: 1566; Part Status: Active; Price: 0.10; Series: CL; Size / Dimension: 0.024" L x 0.012" W (0.60mm x 0.30mm); Supplier 1: DigiKey; Supplier Part Number 1: 1276-1315-1-ND; Temperature Coefficient: X5R; Thickness (Max): 0.013" (0.33mm); Voltage - Rated: 16V
footprint CAP 0201_0603
pins: 1, 2

## CL03A103KP3NNNC
designator C?, comment 10000pF
CAP CER 10000PF 10V X5R 0201; Part Number: CL03A103KP3NNNC; Manufacturer: Samsung Electro-Mechanics; Tolerance: ±10%; Value: 10000pF; Applications: General Purpose; Capacitance: 10000pF; ComponentLink1Description: Datasheet; ComponentLink1URL: http://www.samsungsem.com/kr/support/product-search/mlcc/CL03A103KP3NNNC.jsp; ComponentLink2Description: DigiKey Link; ComponentLink2URL: http://digikey.com/product-detail/en/samsung-electro-mechanics/CL03A103KP3NNNC/1276-1316-1-ND/3889402; Device Package: 0201 (0603 Metric); LastUpdated: 9/2/2020 12:58:03 AM; Lifecycle Status: Active; Minimum Order: 1; Mounting Type: Surface Mount, MLCC; Operating Temperature: -55°C ~ 85°C; Package / Case: 0201 (0603 Metric); Packaging: TapeAndReel; PartId: 1573; Part Status: Active; Price: 0.01; Series: CL; Size / Dimension: 0.024" L x 0.012" W (0.60mm x 0.30mm); Supplier 1: DigiKey; Supplier Part Number 1: 1276-1316-1-ND; Temperature Coefficient: X5R; Thickness (Max): 0.013" (0.33mm); Voltage - Rated: 10V
footprint CAP 0201_0603
pins: 1, 2

## CL03A103KQ3NNNC
designator C?, comment 10000pF
CAP CER 10000PF 6.3V X5R 0201; Part Number: CL03A103KQ3NNNC; Manufacturer: Samsung Electro-Mechanics; Tolerance: ±10%; Value: 10000pF; Applications: General Purpose; Capacitance: 10000pF; ComponentLink1Description: Datasheet; ComponentLink1URL: http://www.samsungsem.com/kr/support/product-search/mlcc/CL03A103KQ3NNNC.jsp; ComponentLink2Description: DigiKey Link; ComponentLink2URL: http://digikey.com/product-detail/en/samsung-electro-mechanics/CL03A103KQ3NNNC/1276-1317-1-ND/3889403; Device Package: 0201 (0603 Metric); LastUpdated: 9/2/2020 12:58:03 AM; Lifecycle Status: Active; Minimum Order: 1; Mounting Type: Surface Mount, MLCC; Operating Temperature: -55°C ~ 85°C; Package / Case: 0201 (0603 Metric); Packaging: TapeAndReel; PartId: 1572; Part Status: Active; Price: 0.01; Series: CL; Size / Dimension: 0.024" L x 0.012" W (0.60mm x 0.30mm); Supplier 1: DigiKey; Supplier Part Number 1: 1276-1317-1-ND; Temperature Coefficient: X5R; Thickness (Max): 0.013" (0.33mm); Voltage - Rated: 6.3V
footprint CAP 0201_0603
pins: 1, 2

## CL03A104KA3NNNC
designator C?, comment 0.1µF
CAP CER 0.1UF 25V X5R 0201; Part Number: CL03A104KA3NNNC; Manufacturer: Samsung Electro-Mechanics; Tolerance: ±10%; Value: 0.1µF; Applications: General Purpose; Capacitance: 0.1µF; ComponentLink1Description: Datasheet; ComponentLink1URL: http://www.samsungsem.com/kr/support/product-search/mlcc/CL03A104KA3NNNC.jsp; ComponentLink2Description: DigiKey Link; ComponentLink2URL: http://digikey.com/product-detail/en/samsung-electro-mechanics/CL03A104KA3NNNC/1276-1318-1-ND/3889404; Device Package: 0201 (0603 Metric); LastUpdated: 9/2/2020 12:58:30 AM; Lifecycle Status: Active; Minimum Order: 1; Mounting Type: Surface Mount, MLCC; Operating Temperature: -55°C ~ 85°C; Package / Case: 0201 (0603 Metric); Packaging: TapeAndReel; PartId: 1275; Part Status: Active; Price: 0.03; Series: CL; Size / Dimension: 0.024" L x 0.012" W (0.60mm x 0.30mm); Supplier 1: DigiKey; Supplier Part Number 1: 1276-1318-1-ND; Temperature Coefficient: X5R; Thickness (Max): 0.013" (0.33mm); Voltage - Rated: 25V
footprint CAP 0201_0603
pins: 1, 2

## CL03A104KO3NNNC
designator C?, comment 0.1µF
CAP CER 0.1UF 16V X5R 0201; Part Number: CL03A104KO3NNNC; Manufacturer: Samsung Electro-Mechanics; Tolerance: ±10%; Value: 0.1µF; Applications: General Purpose; Capacitance: 0.1µF; ComponentLink1Description: Datasheet; ComponentLink1URL: http://www.samsungsem.com/kr/support/product-search/mlcc/CL03A104KO3NNNC.jsp; ComponentLink2Description: DigiKey Link; ComponentLink2URL: http://digikey.com/product-detail/en/samsung-electro-mechanics/CL03A104KO3NNNC/1276-1319-1-ND/3889405; Device Package: 0201 (0603 Metric); LastUpdated: 9/2/2020 12:58:45 AM; Lifecycle Status: Active; Minimum Order: 1; Mounting Type: Surface Mount, MLCC; Operating Temperature: -55°C ~ 85°C; Package / Case: 0201 (0603 Metric); Packaging: TapeAndReel; PartId: 1101; Part Status: Active; Price: 0.05; Series: CL; Size / Dimension: 0.024" L x 0.012" W (0.60mm x 0.30mm); Supplier 1: DigiKey; Supplier Part Number 1: 1276-1319-1-ND; Temperature Coefficient: X5R; Thickness (Max): 0.013" (0.33mm); Voltage - Rated: 16V
footprint CAP 0201_0603
pins: 1, 2

## CL03A104KP3NNNC
designator C?, comment 0.1µF
CAP CER 0.1UF 10V X5R 0201; Part Number: CL03A104KP3NNNC; Manufacturer: Samsung Electro-Mechanics; Tolerance: ±10%; Value: 0.1µF; Applications: General Purpose; Capacitance: 0.1µF; ComponentLink1Description: Datasheet; ComponentLink1URL: http://www.samsungsem.com/kr/support/product-search/mlcc/CL03A104KP3NNNC.jsp; ComponentLink2Description: DigiKey Link; ComponentLink2URL: http://digikey.com/product-detail/en/samsung-electro-mechanics/CL03A104KP3NNNC/1276-1115-1-ND/3889201; Device Package: 0201 (0603 Metric); LastUpdated: 9/2/2020 12:59:13 AM; Lifecycle Status: Active; Minimum Order: 1; Mounting Type: Surface Mount, MLCC; Operating Temperature: -55°C ~ 85°C; Package / Case: 0201 (0603 Metric); Packaging: TapeAndReel; PartId: 772; Part Status: Active; Price: 0.01; Series: CL; Size / Dimension: 0.024" L x 0.012" W (0.60mm x 0.30mm); Supplier 1: DigiKey; Supplier Part Number 1: 1276-1115-1-ND; Temperature Coefficient: X5R; Thickness (Max): 0.013" (0.33mm); Voltage - Rated: 10V
footprint CAP 0201_0603
pins: 1, 2

## CL03A104KQ3NNNC
designator C?, comment 0.1µF
CAP CER 0.1UF 6.3V X5R 0201; Part Number: CL03A104KQ3NNNC; Manufacturer: Samsung Electro-Mechanics; Tolerance: ±10%; Value: 0.1µF; Applications: General Purpose; Capacitance: 0.1µF; ComponentLink1Description: Datasheet; ComponentLink1URL: http://www.samsungsem.com/kr/support/product-search/mlcc/CL03A104KQ3NNNC.jsp; ComponentLink2Description: DigiKey Link; ComponentLink2URL: http://digikey.com/product-detail/en/samsung-electro-mechanics/CL03A104KQ3NNNC/1276-1013-1-ND/3889099; Device Package: 0201 (0603 Metric); LastUpdated: 9/2/2020 12:59:13 AM; Lifecycle Status: Active; Minimum Order: 1; Mounting Type: Surface Mount, MLCC; Operating Temperature: -55°C ~ 85°C; Package / Case: 0201 (0603 Metric); Packaging: CutTape; PartId: 771; Part Status: Active; Price: 0.10; Series: CL; Size / Dimension: 0.024" L x 0.012" W (0.60mm x 0.30mm); Supplier 1: DigiKey; Supplier Part Number 1: 1276-1013-1-ND; Temperature Coefficient: X5R; Thickness (Max): 0.013" (0.33mm); Voltage - Rated: 6.3V
footprint CAP 0201_0603
pins: 1, 2

## CL03A104KQ3NNNH
designator C?, comment 0.1µF
CAP CER 0.1UF 6.3V X5R 0201; Part Number: CL03A104KQ3NNNH; Manufacturer: Samsung Electro-Mechanics; Tolerance: ±10%; Value: 0.1µF; Applications: General Purpose; Capacitance: 0.1µF; ComponentLink1Description: Datasheet; ComponentLink1URL: http://www.samsungsem.com/kr/support/product-search/mlcc/CL03A104KQ3NNNH.jsp; ComponentLink2Description: DigiKey Link; ComponentLink2URL: http://digikey.com/product-detail/en/samsung-electro-mechanics/CL03A104KQ3NNNH/1276-6439-1-ND/5958067; Device Package: 0201 (0603 Metric); LastUpdated: 9/2/2020 12:58:03 AM; Lifecycle Status: Active; Minimum Order: 1; Mounting Type: Surface Mount, MLCC; Operating Temperature: -55°C ~ 85°C; Package / Case: 0201 (0603 Metric); Packaging: CutTape; PartId: 1565; Part Status: Active; Price: 0.10; Series: CL; Size / Dimension: 0.024" L x 0.012" W (0.60mm x 0.30mm); Supplier 1: DigiKey; Supplier Part Number 1: 1276-6439-1-ND; Temperature Coefficient: X5R; Thickness (Max): 0.013" (0.33mm); Voltage - Rated: 6.3V
footprint CAP 0201_0603
pins: 1, 2

## CL03A104MP3NNNC
designator C?, comment 0.1µF
CAP CER 0.1UF 10V X5R 0201; Part Number: CL03A104MP3NNNC; Manufacturer: Samsung Electro-Mechanics; Tolerance: ±20%; Value: 0.1µF; Applications: General Purpose; Capacitance: 0.1µF; ComponentLink1Description: Datasheet; ComponentLink1URL: http://www.samsungsem.com/kr/support/product-search/mlcc/CL03A104MP3NNNC.jsp; ComponentLink2Description: DigiKey Link; ComponentLink2URL: http://digikey.com/product-detail/en/samsung-electro-mechanics/CL03A104MP3NNNC/1276-1321-1-ND/3889407; Device Package: 0201 (0603 Metric); LastUpdated: 9/2/2020 12:59:13 AM; Lifecycle Status: Active; Minimum Order: 1; Mounting Type: Surface Mount, MLCC; Operating Temperature: -55°C ~ 85°C; Package / Case: 0201 (0603 Metric); Packaging: TapeAndReel; PartId: 773; Part Status: Active; Price: 0.01; Series: CL; Size / Dimension: 0.024" L x 0.012" W (0.60mm x 0.30mm); Supplier 1: DigiKey; Supplier Part Number 1: 1276-1321-1-ND; Temperature Coefficient: X5R; Thickness (Max): 0.013" (0.33mm); Voltage - Rated: 10V
footprint CAP 0201_0603
pins: 1, 2

## CL03A105KP3NSNC
designator C?, comment 1µF
CAP CER 1UF 10V X5R 0201; Part Number: CL03A105KP3NSNC; Manufacturer: Samsung Electro-Mechanics; Tolerance: ±10%; Value: 1µF; Applications: General Purpose; Capacitance: 1µF; ComponentLink1Description: Datasheet; ComponentLink1URL: http://www.samsungsem.com/kr/support/product-search/mlcc/CL03A105KP3NSNC.jsp; ComponentLink2Description: DigiKey Link; ComponentLink2URL: http://digikey.com/product-detail/en/samsung-electro-mechanics/CL03A105KP3NSNC/1276-6795-1-ND/5961654; Device Package: 0201 (0603 Metric); LastUpdated: 9/2/2020 1:00:11 AM; Lifecycle Status: Active; Minimum Order: 1; Mounting Type: Surface Mount, MLCC; Operating Temperature: -55°C ~ 85°C; Package / Case: 0201 (0603 Metric); Packaging: TapeAndReel; PartId: 96; Part Status: Active; Price: 0.06; Series: CL; Size / Dimension: 0.024" L x 0.012" W (0.60mm x 0.30mm); Supplier 1: DigiKey; Supplier Part Number 1: 1276-6795-1-ND; Temperature Coefficient: X5R; Thickness (Max): 0.013" (0.33mm); Voltage - Rated: 10V
footprint CAP 0201_0603
pins: 1, 2

## CL03A105KQ3CSNC
designator C?, comment 1µF
CAP CER 1UF 6.3V X5R 0201; Part Number: CL03A105KQ3CSNC; Manufacturer: Samsung Electro-Mechanics; Tolerance: ±10%; Value: 1µF; Applications: General Purpose; Capacitance: 1µF; ComponentLink1Description: Datasheet; ComponentLink1URL: http://www.samsungsem.com/kr/support/product-search/mlcc/CL03A105KQ3CSNC.jsp; ComponentLink2Description: DigiKey Link; ComponentLink2URL: http://digikey.com/product-detail/en/samsung-electro-mechanics/CL03A105KQ3CSNC/1276-1323-1-ND/3889409; Device Package: 0201 (0603 Metric); LastUpdated: 9/2/2020 1:00:12 AM; Lifecycle Status: Active; Minimum Order: 1; Mounting Type: Surface Mount, MLCC; Operating Temperature: -55°C ~ 85°C; Package / Case: 0201 (0603 Metric); Packaging: TapeAndReel; PartId: 95; Part Status: Active; Price: 0.07; Series: CL; Size / Dimension: 0.024" L x 0.012" W (0.60mm x 0.30mm); Supplier 1: DigiKey; Supplier Part Number 1: 1276-1323-1-ND; Temperature Coefficient: X5R; Thickness (Max): 0.013" (0.33mm); Voltage - Rated: 6.3V
footprint CAP 0201_0603
pins: 1, 2

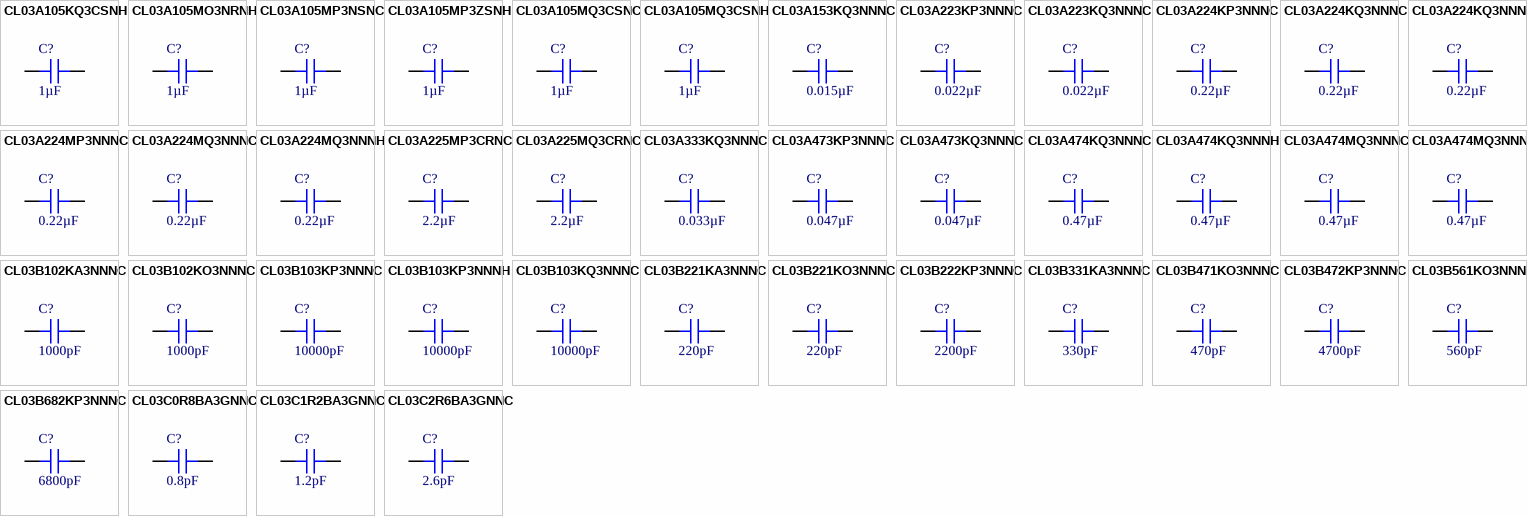
[diagram p16: symbols CL03A105KQ3CSNH to CL03C2R6BA3GNNC]

## CL03A105KQ3CSNH
designator C?, comment 1µF
CAP CER 1UF 6.3V X5R 0201; Part Number: CL03A105KQ3CSNH; Manufacturer: Samsung Electro-Mechanics; Tolerance: ±10%; Value: 1µF; Applications: General Purpose; Capacitance: 1µF; ComponentLink1Description: Datasheet; ComponentLink1URL: http://www.samsungsem.com/kr/support/product-search/mlcc/CL03A105KQ3CSNH.jsp; ComponentLink2Description: DigiKey Link; ComponentLink2URL: http://digikey.com/product-detail/en/samsung-electro-mechanics/CL03A105KQ3CSNH/1276-6440-1-ND/5958068; Device Package: 0201 (0603 Metric); LastUpdated: 9/2/2020 1:00:12 AM; Lifecycle Status: Active; Minimum Order: 1; Mounting Type: Surface Mount, MLCC; Operating Temperature: -55°C ~ 85°C; Package / Case: 0201 (0603 Metric); Packaging: TapeAndReel; PartId: 94; Part Status: Active; Price: 0.07; Series: CL; Size / Dimension: 0.024" L x 0.012" W (0.60mm x 0.30mm); Supplier 1: DigiKey; Supplier Part Number 1: 1276-6440-1-ND; Temperature Coefficient: X5R; Thickness (Max): 0.013" (0.33mm); Voltage - Rated: 6.3V
footprint CAP 0201_0603
pins: 1, 2

## CL03A105MO3NRNH
designator C?, comment 1µF
CAP CER 1UF 16V X5R 0201; Part Number: CL03A105MO3NRNH; Manufacturer: Samsung Electro-Mechanics; Tolerance: ±20%; Value: 1µF; Applications: General Purpose; Capacitance: 1µF; ComponentLink1Description: Datasheet; ComponentLink1URL: http://www.samsungsem.com/kr/support/product-search/mlcc/CL03A105MO3NRNH.jsp; ComponentLink2Description: DigiKey Link; ComponentLink2URL: http://digikey.com/product-detail/en/samsung-electro-mechanics/CL03A105MO3NRNH/1276-6798-1-ND/5961657; Device Package: 0201 (0603 Metric); LastUpdated: 9/2/2020 12:58:45 AM; Lifecycle Status: Active; Minimum Order: 1; Mounting Type: Surface Mount, MLCC; Operating Temperature: -55°C ~ 85°C; Package / Case: 0201 (0603 Metric); Packaging: TapeAndReel; PartId: 1099; Part Status: Active; Price: 0.05; Series: CL; Size / Dimension: 0.024" L x 0.012" W (0.60mm x 0.30mm); Supplier 1: DigiKey; Supplier Part Number 1: 1276-6798-1-ND; Temperature Coefficient: X5R; Thickness (Max): 0.013" (0.33mm); Voltage - Rated: 16V
footprint CAP 0201_0603
pins: 1, 2

## CL03A105MP3NSNC
designator C?, comment 1µF
CAP CER 1UF 10V X5R 0201; Part Number: CL03A105MP3NSNC; Manufacturer: Samsung Electro-Mechanics; Tolerance: ±20%; Value: 1µF; Applications: General Purpose; Capacitance: 1µF; ComponentLink1Description: Datasheet; ComponentLink1URL: http://www.samsungsem.com/kr/support/product-search/mlcc/CL03A105MP3NSNC.jsp; ComponentLink2Description: DigiKey Link; ComponentLink2URL: http://digikey.com/product-detail/en/samsung-electro-mechanics/CL03A105MP3NSNC/1276-1324-1-ND/3889410; Device Package: 0201 (0603 Metric); LastUpdated: 9/2/2020 12:58:24 AM; Lifecycle Status: Active; Minimum Order: 1; Mounting Type: Surface Mount, MLCC; Operating Temperature: -55°C ~ 85°C; Package / Case: 0201 (0603 Metric); Packaging: TapeAndReel; PartId: 1341; Part Status: Active; Price: 0.14; Series: CL; Size / Dimension: 0.024" L x 0.012" W (0.60mm x 0.30mm); Supplier 1: DigiKey; Supplier Part Number 1: 1276-1324-1-ND; Temperature Coefficient: X5R; Thickness (Max): 0.013" (0.33mm); Voltage - Rated: 10V
footprint CAP 0201_0603
pins: 1, 2

## CL03A105MP3ZSNH
designator C?, comment 1µF
CAP CER 1UF 10V X5R 0201; Part Number: CL03A105MP3ZSNH; Manufacturer: Samsung Electro-Mechanics; Tolerance: ±20%; Value: 1µF; Applications: Boardflex Sensitive; Capacitance: 1µF; ComponentLink1Description: Datasheet; ComponentLink1URL: http://www.samsungsem.com/kr/support/product-search/mlcc/CL03A105MP3ZSNH.jsp; ComponentLink2Description: DigiKey Link; ComponentLink2URL: http://digikey.com/product-detail/en/samsung-electro-mechanics/CL03A105MP3ZSNH/1276-6816-1-ND/5961675; Device Package: 0201 (0603 Metric); Features: Soft Termination; LastUpdated: 9/2/2020 12:58:29 AM; Lifecycle Status: Active; Minimum Order: 1; Mounting Type: Surface Mount, MLCC; Operating Temperature: -55°C ~ 85°C; Package / Case: 0201 (0603 Metric); Packaging: TapeAndReel; PartId: 1285; Part Status: Active; Price: 0.04; Series: CL; Size / Dimension: 0.024" L x 0.012" W (0.60mm x 0.30mm); Supplier 1: DigiKey; Supplier Part Number 1: 1276-6816-1-ND; Temperature Coefficient: X5R; Thickness (Max): 0.013" (0.33mm); Voltage - Rated: 10V
footprint CAP 0201_0603
pins: 1, 2